# EAGLE library part BMS-LIFEPO4-7S (library custom)
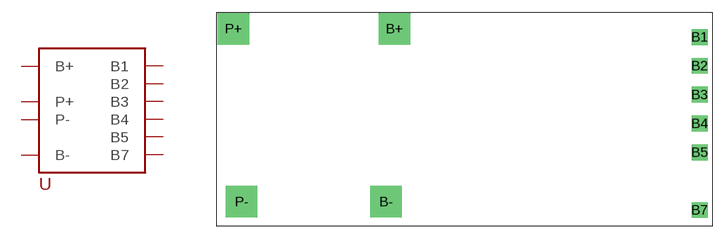
[diagram p22: symbol with the pads of BMS-LIFEPO4-7S; footprint BMS-LIFEPO4-7S]

Designator prefix -

## BMS-LIFEPO4-7S  [BMS-LIFEPO4-7S]
B1  B1
B2  B2
B3  B3
B4  B4
B5  B5
B7  B7
B+  B+
B-  B-
P+  P+
P-  P-

## Footprint BMS-LIFEPO4-7S (pad centres in mm)
drill 1 pad 1.93 square: B1 28.5,10; B2 28.5,6.5; B3 28.5,3; B4 28.5,-0.5; B5 28.5,-4; B7 28.5,-11
drill 2 pad 3.81 square: B+ -8.5,11; B- -9.5,-10; P+ -28,11; P- -27,-10